# EAGLE library part USB_MICRO_PTH (library SamacSys_Parts)
STANDARD & RUGGED USB 2.0 Source: Datasheet <http://suddendocs.samtec.com/catalog_english/usb_a.pdf>
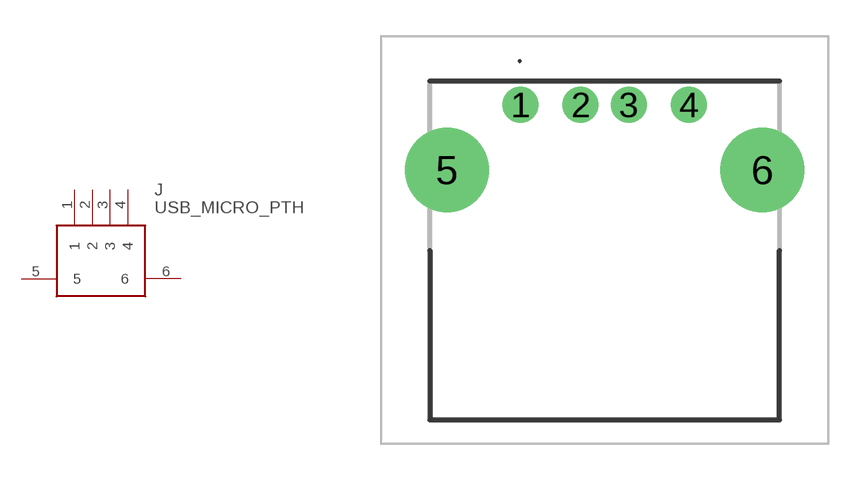
[diagram p0: symbol with the pads of USBASFBTHR; footprint USBASFBTHR]

Designator prefix J

## USB_MICRO_PTH (DESCRIPTION: STANDARD & RUGGED USB 2.0; HEIGHT: 6.9mm; MANUFACTURER_NAME: SAMTEC; MANUFACTURER_PART_NUMBER: USB-A-S-F-B-TH-R; MOUSER_PART_NUMBER: 200-USBASFBTHR; MOUSER_PRICE-STOCK: https://www.mouser.com/Search/Refine.aspx?Keyword=200-USBASFBTHR; RS_PART_NUMBER: 1612497; RS_PRICE-STOCK: http://uk.rs-online.com/web/p/products/1612497)  [USBASFBTHR]
1  1
2  2
3  3
4  4
5  5
6  6

## Footprint USBASFBTHR (pad centres in mm)
USBR-A-S-F-O-TH
drill 0.92 pad 1.5: 1 0,0; 2 2.5,0; 3 4.5,0; 4 7,0
drill 2.3 pad 3.5: 5 -3.07,-2.71; 6 10.07,-2.71